# EAGLE library part UJ2-AH-4-TH (library UJ2-AH-4-TH)
USB Connectors USB 2.0 type A jack 4 pin Horizontal TH Source: Datasheet <https://www.cui.com/product/resource/uj2-ah-4-th.pdf>
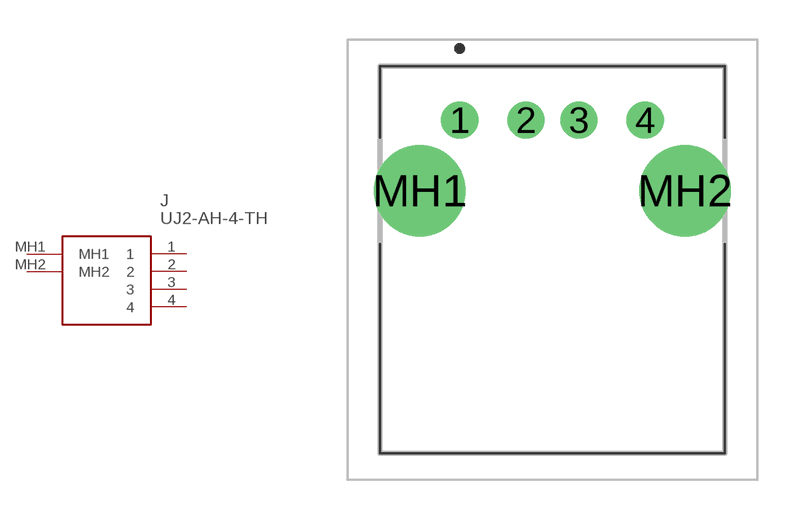
[diagram p0: symbol with the pads of UJ2AH4TH; footprint UJ2AH4TH]

Designator prefix J

## UJ2-AH-4-TH (Arrow_Part_Number: UJ2-AH-4-TH; Arrow_Price-Stock: https://www.arrow.com/en/products/uj2-ah-4-th/cui-devices; Description: USB Connectors USB 2.0 type A jack 4 pin Horizontal TH; Height: 6.94mm; Manufacturer_Name: CUI Inc.; Manufacturer_Part_Number: UJ2-AH-4-TH; Mouser_Part_Number: 490-UJ2-AH-4-TH; Mouser_Price-Stock: https://www.mouser.co.uk/ProductDetail/CUI-Devices/UJ2-AH-4-TH/?qs=5mqXD9RfOg1V4xKoNh4Gxg%3D%3D)  [UJ2AH4TH]
1  1
2  2
3  3
4  4
MH1  MH1
MH2  MH2

## Footprint UJ2AH4TH (pad centres in mm)
UJ2-AH-4-TH-1
drill 0.9 pad 1.4: 1 0,0; 2 2.5,0; 3 4.5,0; 4 7,0
drill 2.3 pad 3.45: MH1 -1.5,-2.67; MH2 8.5,-2.67